# EAGLE library part DP03 (library switch-dil)
DIL/CODE SWITCH
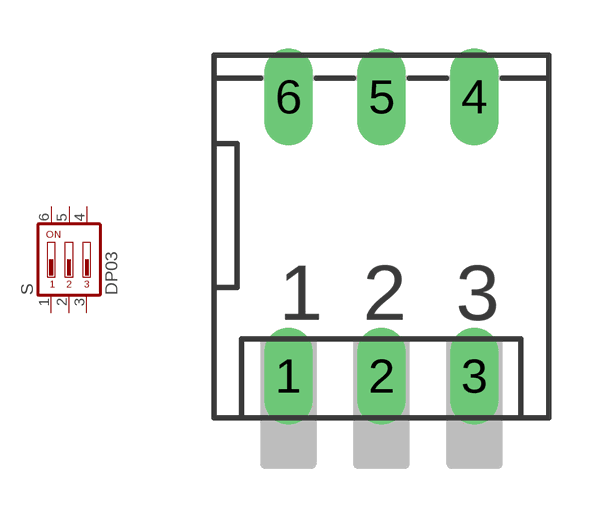
[diagram p25: symbol with the pads of DP-03; footprint DP-03]

Designator prefix S

## DP03 (MPN: MCDP03; OC_FARNELL: 1522004; OC_NEWARK: 74M2976)  [DP-03]
1  1  pas
2  2  pas
3  3  pas
4  4  pas
5  5  pas
6  6  pas

## Footprint DP-03 (pad centres in mm)
DIL/CODE SWITCH
drill 0.813 long: 1 -2.54,-3.81; 2 0,-3.81; 3 2.54,-3.81; 4 2.54,3.81; 5 0,3.81; 6 -2.54,3.81